# EAGLE library part SPI-FLASH (library flash)
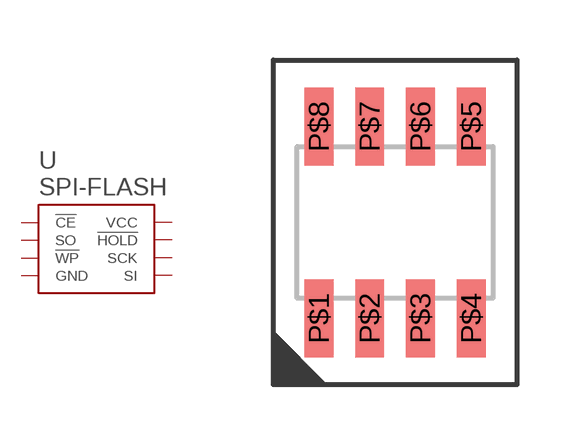
[diagram p0: symbol with the pads of SOIC-8; footprint SOIC-8]

Designator prefix U

## SPI-FLASH-SOIC8  [SOIC-8]
P$1  !CE
P$2  SO
P$3  !WP
P$4  GND
P$5  SI
P$6  SCK
P$7  !HOLD
P$8  VCC

## Footprint SOIC-8 (pad centres in mm)
smd 0.72 x 1.95: P$1 -1.905,-2.4; P$2 -0.635,-2.4; P$3 0.635,-2.4; P$4 1.905,-2.4; P$5 1.905,2.4; P$6 0.635,2.4; P$7 -0.635,2.4; P$8 -1.905,2.4